# Altium footprint library shield_PcbLib.PcbLib: 25 footprints (part 2 of 2)
Each footprint in its own frame and in the unit in brackets; x right, y up, seen from the top. Pads: shape width x height; smd on the part's side, far side on the other; paste and mask are expansions set on the pad; w line width, h text height; cw(c..) or ccw(c..) is an arc to the next point about the centre after c.
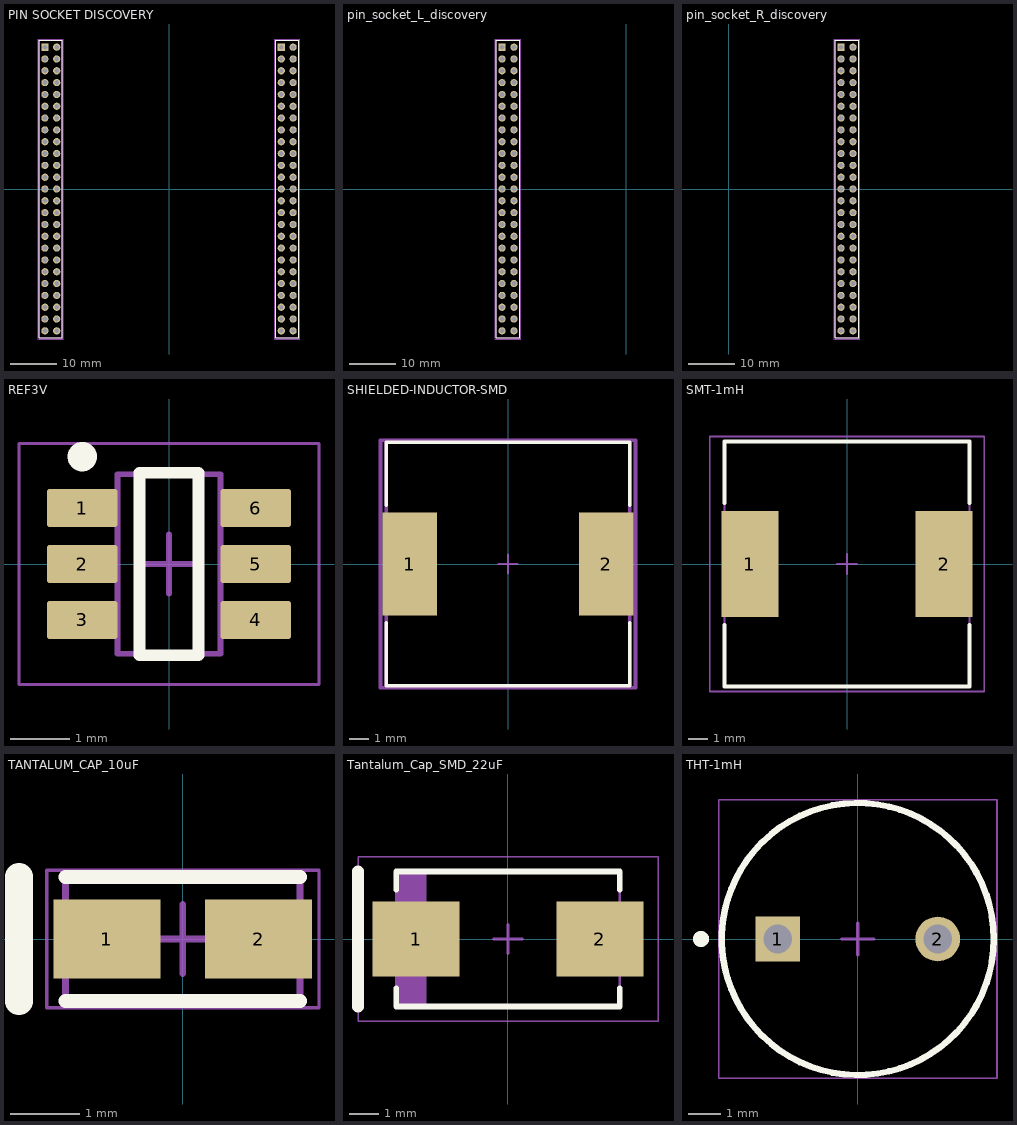
[diagram p1: the footprints below, top view; thin cyan lines are the x and y axes]

## PIN SOCKET DISCOVERY [mm]
pads (100):
  rect 1.55x1.55 hole 1.02: 1(-26.67,30.48) 1(24.13,30.48)
  round 1.55 hole 1.02: 2(-24.13,30.48) 2(26.67,30.48) 3(-26.67,27.94) 3(24.13,27.94) 4(-24.13,27.94) 4(26.67,27.94) 5(-26.67,25.4) 5(24.13,25.4) 6(-24.13,25.4) 6(26.67,25.4) 7(-26.67,22.86) 7(24.13,22.86) 8(-24.13,22.86) 8(26.67,22.86) 9(-26.67,20.32) 9(24.13,20.32) 10(-24.13,20.32) 10(26.67,20.32) 11(-26.67,17.78) 11(24.13,17.78) 12(-24.13,17.78) 12(26.67,17.78) 13(-26.67,15.24) 13(24.13,15.24) 14(-24.13,15.24) 14(26.67,15.24) 15(-26.67,12.7) 15(24.13,12.7) 16(-24.13,12.7) 16(26.67,12.7) 17(-26.67,10.16) 17(24.13,10.16) 18(-24.13,10.16) 18(26.67,10.16) 19(-26.67,7.62) 19(24.13,7.62) 20(-24.13,7.62) 20(26.67,7.62) 21(-26.67,5.08) 21(24.13,5.08) 22(-24.13,5.08) 22(26.67,5.08) 23(-26.67,2.54) 23(24.13,2.54) 24(-24.13,2.54) 24(26.67,2.54) 25(-26.67,0) 25(24.13,0) 26(-24.13,0) 26(26.67,0) 27(-26.67,-2.54) 27(24.13,-2.54) 28(-24.13,-2.54) 28(26.67,-2.54) 29(-26.67,-5.08) 29(24.13,-5.08) 30(-24.13,-5.08) 30(26.67,-5.08) 31(-26.67,-7.62) 31(24.13,-7.62) 32(-24.13,-7.62) 32(26.67,-7.62) 33(-26.67,-10.16) 33(24.13,-10.16) 34(-24.13,-10.16) 34(26.67,-10.16) 35(-26.67,-12.7) 35(24.13,-12.7) 36(-24.13,-12.7) 36(26.67,-12.7) 37(-26.67,-15.24) 37(24.13,-15.24) 38(-24.13,-15.24) 38(26.67,-15.24) 39(-26.67,-17.78) 39(24.13,-17.78) 40(-24.13,-17.78) 40(26.67,-17.78) 41(-26.67,-20.32) 41(24.13,-20.32) 42(-24.13,-20.32) 42(26.67,-20.32) 43(-26.67,-22.86) 43(24.13,-22.86) 44(-24.13,-22.86) 44(26.67,-22.86) 45(-26.67,-25.4) 45(24.13,-25.4) 46(-24.13,-25.4) 46(26.67,-25.4) 47(-26.67,-27.94) 47(24.13,-27.94) 48(-24.13,-27.94) 48(26.67,-27.94) 49(-26.67,-30.48) 49(24.13,-30.48) 50(-24.13,-30.48) 50(26.67,-30.48)
Top Layer:
  text "Header's center" at -4.746,1.52 h1.52
Top Overlay:
  lines w0.2: -27.875,-32.005 -27.875,32.005 -22.925,32.005 -22.925,-32.005 -27.875,-32.005 ; 22.925,-32.005 22.925,32.005 27.875,32.005 27.875,-32.005 22.925,-32.005
Mechanical 13:
  lines w0.1: -27.875,-32.005 -27.875,32.005 -22.925,32.005 -22.925,-32.005 -27.875,-32.005 ; 22.925,-32.005 22.925,32.005 27.875,32.005 27.875,-32.005 22.925,-32.005
Mechanical 15:
  lines w0.05: -28.1,-32.23 -28.1,32.23 -22.7,32.23 -22.7,-32.23 -28.1,-32.23 ; 22.7,-32.23 22.7,32.23 28.1,32.23 28.1,-32.23 22.7,-32.23
3D body "ESQ-125-13-X-D.step": height 11.05, standoff -7.37, extent 22.86,-32.003 27.94,32.005
3D body "ESQ-125-13-X-D.step": height 11.05, standoff -7.37, extent -27.94,-32.003 -22.86,32.005

## pin_socket_L_discovery [mm]
pads (50):
  rect 1.55x1.55 hole 1.02: 1(-26.67,30.48)
  round 1.55 hole 1.02: 2(-24.13,30.48) 3(-26.67,27.94) 4(-24.13,27.94) 5(-26.67,25.4) 6(-24.13,25.4) 7(-26.67,22.86) 8(-24.13,22.86) 9(-26.67,20.32) 10(-24.13,20.32) 11(-26.67,17.78) 12(-24.13,17.78) 13(-26.67,15.24) 14(-24.13,15.24) 15(-26.67,12.7) 16(-24.13,12.7) 17(-26.67,10.16) 18(-24.13,10.16) 19(-26.67,7.62) 20(-24.13,7.62) 21(-26.67,5.08) 22(-24.13,5.08) 23(-26.67,2.54) 24(-24.13,2.54) 25(-26.67,0) 26(-24.13,0) 27(-26.67,-2.54) 28(-24.13,-2.54) 29(-26.67,-5.08) 30(-24.13,-5.08) 31(-26.67,-7.62) 32(-24.13,-7.62) 33(-26.67,-10.16) 34(-24.13,-10.16) 35(-26.67,-12.7) 36(-24.13,-12.7) 37(-26.67,-15.24) 38(-24.13,-15.24) 39(-26.67,-17.78) 40(-24.13,-17.78) 41(-26.67,-20.32) 42(-24.13,-20.32) 43(-26.67,-22.86) 44(-24.13,-22.86) 45(-26.67,-25.4) 46(-24.13,-25.4) 47(-26.67,-27.94) 48(-24.13,-27.94) 49(-26.67,-30.48) 50(-24.13,-30.48)
Top Overlay:
  lines w0.2: -27.875,-32.005 -27.875,32.005 -22.925,32.005 -22.925,-32.005 -27.875,-32.005
Mechanical 13:
  lines w0.1: -27.875,-32.005 -27.875,32.005 -22.925,32.005 -22.925,-32.005 -27.875,-32.005
Mechanical 15:
  lines w0.05: -28.1,-32.23 -28.1,32.23 -22.7,32.23 -22.7,-32.23 -28.1,-32.23
3D body "ESQ-125-13-X-D.step": height 11.05, standoff -7.37, extent -27.94,-32.003 -22.86,32.005

## pin_socket_R_discovery [mm]
pads (50):
  rect 1.55x1.55 hole 1.02: 1(24.13,30.48)
  round 1.55 hole 1.02: 2(26.67,30.48) 3(24.13,27.94) 4(26.67,27.94) 5(24.13,25.4) 6(26.67,25.4) 7(24.13,22.86) 8(26.67,22.86) 9(24.13,20.32) 10(26.67,20.32) 11(24.13,17.78) 12(26.67,17.78) 13(24.13,15.24) 14(26.67,15.24) 15(24.13,12.7) 16(26.67,12.7) 17(24.13,10.16) 18(26.67,10.16) 19(24.13,7.62) 20(26.67,7.62) 21(24.13,5.08) 22(26.67,5.08) 23(24.13,2.54) 24(26.67,2.54) 25(24.13,0) 26(26.67,0) 27(24.13,-2.54) 28(26.67,-2.54) 29(24.13,-5.08) 30(26.67,-5.08) 31(24.13,-7.62) 32(26.67,-7.62) 33(24.13,-10.16) 34(26.67,-10.16) 35(24.13,-12.7) 36(26.67,-12.7) 37(24.13,-15.24) 38(26.67,-15.24) 39(24.13,-17.78) 40(26.67,-17.78) 41(24.13,-20.32) 42(26.67,-20.32) 43(24.13,-22.86) 44(26.67,-22.86) 45(24.13,-25.4) 46(26.67,-25.4) 47(24.13,-27.94) 48(26.67,-27.94) 49(24.13,-30.48) 50(26.67,-30.48)
Top Overlay:
  lines w0.2: 22.925,-32.005 22.925,32.005 27.875,32.005 27.875,-32.005 22.925,-32.005
Mechanical 13:
  lines w0.1: 22.925,-32.005 22.925,32.005 27.875,32.005 27.875,-32.005 22.925,-32.005
Mechanical 15:
  lines w0.05: 22.7,-32.23 22.7,32.23 28.1,32.23 28.1,-32.23 22.7,-32.23
3D body "ESQ-125-13-X-D.step": height 11.05, standoff -7.37, extent 22.86,-32.003 27.94,32.005

## REF3V [mm] "SOT23, 6-Leads, Body 3.05x1.75mm, Pitch 0.95mm, IPC Low Density"
height 1.45
pads (6):
  rrect15% 1.2x0.65 smd: 1(-1.475,0.95) 2(-1.475,0) 3(-1.475,-0.95) 4(1.475,-0.95) 5(1.475,0) 6(1.475,0.95)
Top Overlay:
  circle w0.25: c-1.475,1.825 r0.125
  lines w0.2: -0.5,-1.55 0.5,-1.55 0.5,1.55 -0.5,1.55 -0.5,-1.55
Mechanical 1:
  text ".Designator" at -0.635,-0.127 h0.4
Mechanical 13:
  lines w0.1: -0.875,-1.525 -0.875,1.525 0.875,1.525 0.875,-1.525 -0.875,-1.525
Mechanical 15:
  lines w0.05: -2.55,-2.05 -2.55,2.05 2.55,2.05 2.55,-2.05 -2.55,-2.05
  lines w0.1: -0.5,0 0.5,0 ; 0,-0.5 0,0.5
3D body "DBV0006AakaMF06A.stp": height 1.11, standoff -0.01, extent -1.422,-1.461 1.422,1.46

## SHIELDED-INDUCTOR-SMD [mm] "100uH, FP-SRR1210-MFG"
pads (2):
  rect 2.8x5.3 smd paste+0 mask+0: 1(-5.05,0) 2(5.05,0)
Top Overlay:
  lines w0.2: -6.25,-3.025 -6.25,-6.25 6.25,-6.25 6.25,-3.025 ; -6.25,3.025 -6.25,6.25 6.25,6.25 6.25,3.025
Mechanical 5:
  lines w0.2: -6.55,-6.35 -6.55,6.35 6.55,6.35 6.55,-6.35 -6.55,-6.35
  text ".Designator" at 0,0.188 h1
Mechanical 13:
  lines w0.2: -6.25,-6.25 -6.25,6.25 6.25,6.25 6.25,-6.25 -6.25,-6.25
Mechanical 15:
  lines w0.2: -6.55,-6.35 -6.55,6.35 6.55,6.35 6.55,-6.35 -6.55,-6.35
Mechanical 16:
  lines w0.1: -0.5,0 0.5,0 ; 0,-0.5 0,0.5
3D body "Ind_Bourns_SRR1210-680M_eec.STEP": height 0.25, standoff 0, extent -6.55,-6.35 6.55,6.35

## SMT-1mH [mm] "SMD Inductor, 2-Leads, Body 12.0 x 12.0 mm"
height 8
pads (2):
  rect 2.9x5.4 smd: 1(-4.95,0) 2(4.95,0)
Top Overlay:
  lines w0.2: -6.25,-3.1 -6.25,-6.25 6.25,-6.25 6.25,-3.1 ; -6.25,3.1 -6.25,6.25 6.25,6.25 6.25,3.1
Mechanical 1:
  text "'.Designator'" at 0.1,0.267 h0.5
Mechanical 13:
  lines w0.1: -6.25,-6.25 6.25,-6.25 6.25,6.25 -6.25,6.25 -6.25,-6.25
Mechanical 15:
  lines w0.1: -0.5,0 0.5,0 ; 0,-0.5 0,0.5 ; -7,-6.5 7,-6.5 7,6.5 -7,6.5 -7,-6.5
3D body "744770268.stp": height 7.99, standoff -0.01, extent -6,-6 6,6

## TANTALUM_CAP_10uF [mm] "Molded TAN Capacitor, 2-Leads, Body 3.4x1.8mm, IPC High Density"
height 1.8
pads (2):
  rect 1.55x1.15 smd: 1(-1.1,0) 2(1.1,0)
Top Overlay:
  lines w0.2: -1.7,-0.9 1.7,-0.9 ; -1.7,0.9 1.7,0.9
  lines w0.4: -2.375,-0.9 -2.375,0.9
Mechanical 13:
  lines w0.1: -1.7,-0.9 1.7,-0.9 1.7,0.9 -1.7,0.9 -1.7,-0.9
Mechanical 15:
  lines w0.05: -1.975,-1 1.975,-1 1.975,1 -1.975,1 -1.975,-1
  lines w0.1: -0.5,0 0.5,0 ; 0,-0.5 0,0.5
3D body: height 1.8, standoff 0, extent -1.7,-0.9 1.7,0.9

## Tantalum_Cap_SMD_22uF [mm] "Molded Capacitor, 2-Leads, Body 7.6x4.6mm, IPC Low Density"
height 3.1
pads (2):
  rect 2.95x2.55 smd: 1(-3.125,0) 2(3.125,0)
Top Overlay:
  lines w0.2: -3.8,-1.675 -3.8,-2.3 3.8,-2.3 3.8,-1.675 ; -3.8,1.675 -3.8,2.3 3.8,2.3 3.8,1.675
  lines w0.4: -5.1,-2.3 -5.1,2.3
Mechanical 13:
  rectangle: -3.8,-2.3 -2.778,2.3
  lines w0.1: -3.8,-2.3 3.8,-2.3 3.8,2.3 -3.8,2.3 -3.8,-2.3
Mechanical 15:
  lines w0.05: -5.1,-2.8 5.1,-2.8 5.1,2.8 -5.1,2.8 -5.1,-2.8
  lines w0.1: -0.5,0 0.5,0 ; 0,-0.5 0,0.5
3D body "CAPMP7343X31M.step": height 3.1, standoff 0, extent -4.02,-2.3 4.02,2.3

## THT-1mH [mm] "THD, 2-Leads, Dia 8.5mm, Pitch 5mm"
height 11
pads (2):
  rect 1.4x1.4 hole 0.9 unplated: 1(-2.5,0)
  round 1.4 hole 0.9 unplated: 2(2.5,0)
Top Overlay:
  circle w0.2: c0,0 r4.25
  circle w0.25: c-4.9,0 r0.125
Mechanical 1:
  text "'.Designator'" at 0.1,0.267 h0.5
Mechanical 13:
  circle w0.1: c0,0 r4.25
Mechanical 15:
  lines w0.05: -4.35,-4.35 -4.35,4.35 4.35,4.35 4.35,-4.35 -4.35,-4.35
  lines w0.1: -0.5,0 0.5,0 ; 0,-0.5 0,0.5
3D body "rl622.stp": height 11, standoff -5, extent -4.25,-4.25 4.25,4.25